# Altium integrated library FDS4435BZ.IntLib: 1 symbol
Pins are listed as number, name and electrical type; pins without a type are passive.

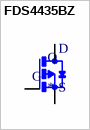
[diagram p0: symbol FDS4435BZ]

## FDS4435BZ
designator Q
MOSFET 30V.PCH POWER TRENCH MOSFET; MP: FDS4435BZ; MF: ON Semiconductor / Fairchild; DigiKey-Purchase-URL: https://snapeda.com/shop?store=DigiKey&id=4825985; Package: None; SnapEDA_Link: https://www.snapeda.com/parts/FDS4435BZ/Fairchild%20Semiconductor/view-part/4825985/?ref=snap; Value: *; Mouser-Purchase-URL: https://snapeda.com/shop?store=Mouser&id=4825985; Arrow_Electronics-Purchase-URL: https://snapeda.com/shop?store=Arrow+Electronics&id=4825985; Availability: Unavailable; Price: None
footprint SO08-E3
pins: 1-3 S, 4 G, 5-8 D